# EAGLE library part DRV8835 (library IC & Transistor)
DRV8835 Dual Channel Motor Driver Vcc = 2V - 7V Vm = 0V - 11V Iout = 1.5A Created by: SC Lim
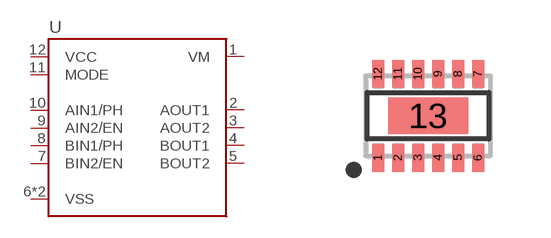
[diagram p81: symbol with the pads of WSON-12; footprint WSON-12]

Designator prefix U

## DRV8835_(WSON-12) (CYTRON-PC: S-IC-DRV8835-WSON-12; DESC: S Dual Channel Motor Driver DRV8835; MF: Texas Instruments; MPN: DRV8835)  [WSON-12]
1  VM  pwr
2  AOUT1
3  AOUT2
4  BOUT1
5  BOUT2
6  VSS  pwr
7  BIN2/EN
8  BIN1/PH
9  AIN2/EN
10  AIN1/PH
11  MODE
12  VCC  pwr
13  VSS  pwr

## Footprint WSON-12 (pad centres in mm)
WSON-12 Specifications: Pin count: 12 Area:2mmx3mm Datasheet referenced for footprint <http://www.ti.com/lit/ds/symlink/drv8835.pdf> Adapted from Sparkfun Eagle Libraries by SC Lim
smd 0.3 x 0.7: 1 -1.25,-1.05; 2 -0.75,-1.05; 3 -0.25,-1.05; 4 0.25,-1.05; 5 0.75,-1.05; 6 1.25,-1.05; 7 1.25,1.05; 8 0.75,1.05; 9 0.25,1.05; 10 -0.25,1.05; 11 -0.75,1.05; 12 -1.25,1.05
smd 2 x 0.9: 13 0,0